# EAGLE library part MPU9250 (library shoe)
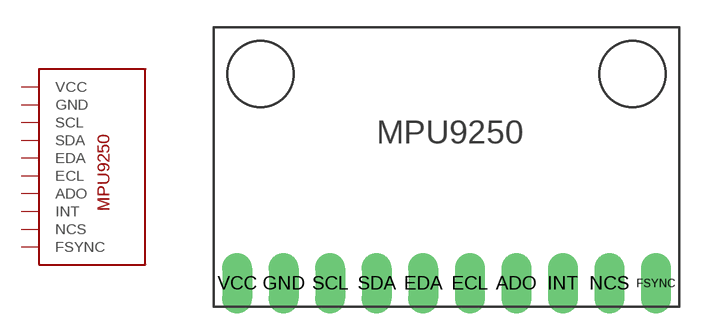
[diagram p0: symbol with the pads of MPU9250; footprint MPU9250]

Designator prefix MPU

## MPU9250  [MPU9250]
ADO  ADO
ECL  ECL
EDA  EDA
FSYNC  FSYNC
GND  GND
INT  INT
NCS  NCS
SCL  SCL
SDA  SDA
VCC  VCC

## Footprint MPU9250 (pad centres in mm)
drill 1.1 long: ADO 3.81,-5.08; ECL 1.27,-5.08; EDA -1.27,-5.08; FSYNC 11.43,-5.08; GND -8.89,-5.08; INT 6.35,-5.08; NCS 8.89,-5.08; SCL -6.35,-5.08; SDA -3.81,-5.08; VCC -11.43,-5.08